# EAGLE library part ICM7218 (library thump)
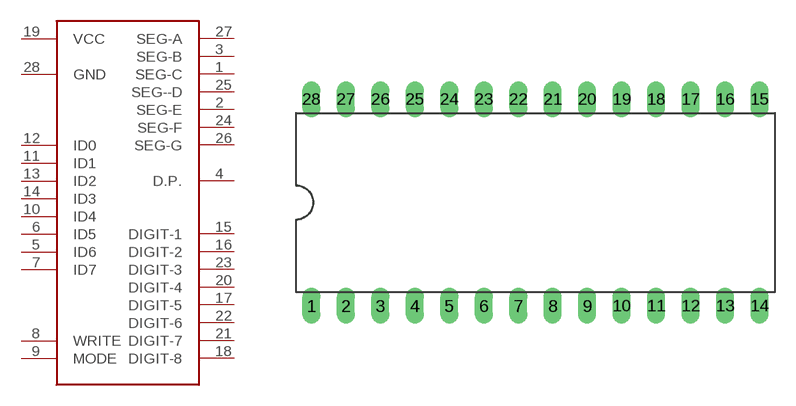
[diagram p1: symbol with the pads of DIL28-6; footprint DIL28-6]

Designator prefix -

## ICM7218  [DIL28-6]
1  SEG-C
2  SEG-E
3  SEG-B
4  D.P.
5  ID6
6  ID5
7  ID7
8  WRITE
9  MODE
10  ID4
11  ID1
12  ID0
13  ID2
14  ID3
15  DIGIT-1
16  DIGIT-2
17  DIGIT-5
18  DIGIT-8
19  VCC  pwr
20  DIGIT-4
21  DIGIT-7
22  DIGIT-6
23  DIGIT-3
24  SEG-F
25  SEG--D
26  SEG-G
27  SEG-A
28  GND  pwr

## Footprint DIL28-6 (pad centres in mm)
drill 0.813 long: 1 -16.51,-7.62; 2 -13.97,-7.62; 3 -11.43,-7.62; 4 -8.89,-7.62; 5 -6.35,-7.62; 6 -3.81,-7.62; 7 -1.27,-7.62; 8 1.27,-7.62; 9 3.81,-7.62; 10 6.35,-7.62; 11 8.89,-7.62; 12 11.43,-7.62; 13 13.97,-7.62; 14 16.51,-7.62; 15 16.51,7.62; 16 13.97,7.62; 17 11.43,7.62; 18 8.89,7.62; 19 6.35,7.62; 20 3.81,7.62; 21 1.27,7.62; 22 -1.27,7.62; 23 -3.81,7.62; 24 -6.35,7.62; 25 -8.89,7.62; 26 -11.43,7.62; 27 -13.97,7.62; 28 -16.51,7.62